# EAGLE library part SMF05C (library borkedlabs-diodes)
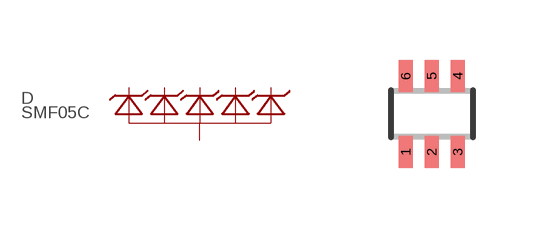
[diagram p0: symbol with the pads of SC70-6; footprint SC70-6]

Designator prefix D

## SMF05C  [SC70-6]
1  C1  pas
2  A  pas
3  C2  pas
4  C3  pas
5  C4  pas
6  C5  pas

## Footprint SC70-6 (pad centres in mm)
6-Lead Thin Shrink Small Outline Transistor Package SC70 Source: http://www.analog.com/static/imported-files/data_sheets/ADA4853-1_4853-2_4853-3.pdf
smd 0.35 x 0.8: 1 -0.65,-0.95; 2 0,-0.95; 3 0.65,-0.95; 4 0.65,0.95; 5 0,0.95; 6 -0.65,0.95